# Altium schematic symbol library 93xx56x-x-OT.SchLib: 1 symbol
Pins are listed as number, name and electrical type; pins without a type are passive.

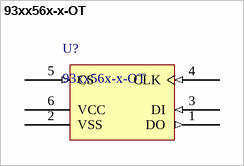
[diagram p0: symbol 93xx56x-x-OT]

## 93xx56x-x-OT
designator U?
pins: 1 DO (out), 2 VSS (power), 3 DI (in), 4 CLK (in), 5 CS (in), 6 VCC (power)